# EAGLE library part CECL08D (library BaseApp)
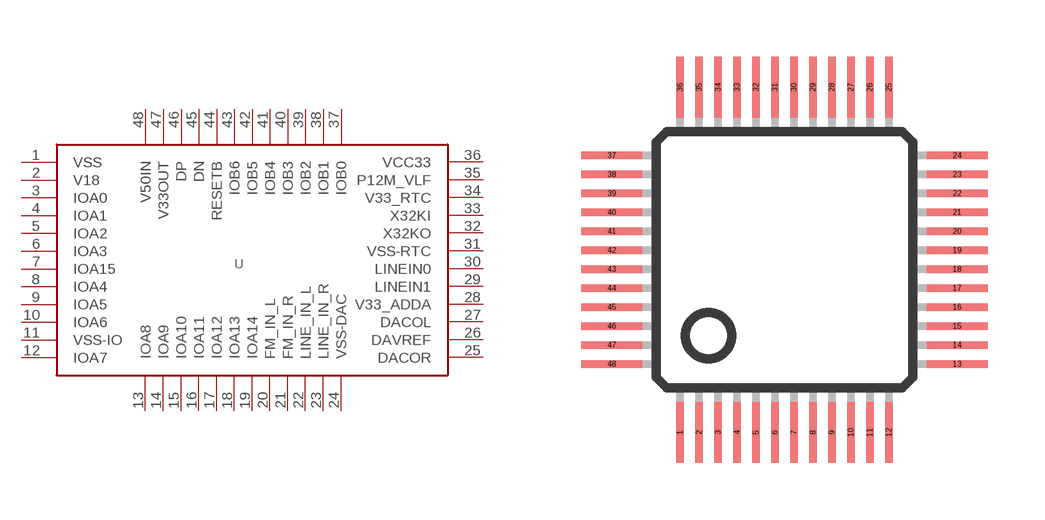
[diagram p67: symbol with the pads of 48LQFP; footprint 48LQFP]

Designator prefix -

## CECL08D  [48LQFP]
1  VSS
2  V18
3  IOA0
4  IOA1
5  IOA2
6  IOA3
7  IOA15
8  IOA4
9  IOA5
10  IOA6
11  VSS-IO
12  IOA7
13  IOA8
14  IOA9
15  IOA10
16  IOA11
17  IOA12
18  IOA13
19  IOA14
20  FM_IN_L
21  FM_IN_R
22  LINE_IN_L
23  LINE_IN_R
24  VSS-DAC
25  DACOR
26  DAVREF
27  DACOL
28  V33_ADDA
29  LINEIN1
30  LINEIN0
31  VSS-RTC
32  X32KO
33  X32KI
34  V33_RTC
35  P12M_VLF
36  VCC33
37  IOB0
38  IOB1
39  IOB2
40  IOB3
41  IOB4
42  IOB5
43  IOB6
44  RESETB
45  DN
46  DP
47  V33OUT
48  V50IN

## Footprint 48LQFP (pad centres in mm)
smd 0.2 x 1.6: 1 -3.004,-4.867; 2 -2.504,-4.867; 3 -2.004,-4.867; 4 -1.504,-4.867; 5 -1.004,-4.867; 6 -0.504,-4.867; 7 -0.004,-4.867; 8 0.496,-4.867; 9 0.996,-4.867; 10 1.496,-4.867; 11 1.996,-4.867; 12 2.496,-4.867; 25 2.496,4.232; 26 1.996,4.232; 27 1.496,4.232; 28 0.996,4.232; 29 0.496,4.232; 30 -0.004,4.232; 31 -0.504,4.232; 32 -1.004,4.232; 33 -1.504,4.232; 34 -2.004,4.232; 35 -2.504,4.232; 36 -3.004,4.232
smd 1.6 x 0.2: 13 4.296,-3.067; 14 4.296,-2.567; 15 4.296,-2.067; 16 4.296,-1.567; 17 4.296,-1.067; 18 4.296,-0.568; 19 4.296,-0.068; 20 4.296,0.432; 21 4.296,0.932; 22 4.296,1.433; 23 4.296,1.933; 24 4.296,2.433; 37 -4.804,2.433; 38 -4.804,1.933; 39 -4.804,1.433; 40 -4.804,0.932; 41 -4.804,0.432; 42 -4.804,-0.068; 43 -4.804,-0.568; 44 -4.804,-1.067; 45 -4.804,-1.567; 46 -4.804,-2.067; 47 -4.804,-2.567; 48 -4.804,-3.067